# EAGLE library part TC2030-MCP-SWD (library tag-connect)
This RJ12 device is intended to be used at the programmer side with a TC2030-MCP cable for connecting to SWD targets. (Just because the MCP variant is cheaper and easier to acquire).
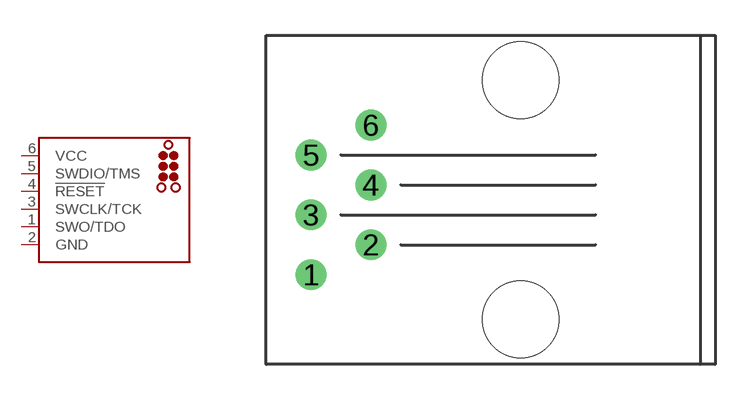
[diagram p2: symbol with the pads of RJ12; footprint RJ12]

Designator prefix CON

## TC2030-MCP-SWD  [RJ12]
1  SWO/TDO
2  GND  pas
3  SWCLK/TCK  out
4  !RESET  out
5  SWDIO/TMS
6  VCC  pas

## Footprint RJ12 (pad centres in mm)
RJ12, RJ14, RJ25 RJ12, RJ14 and RJ22 jacks side mounted http://www.tycoelectronics.com
drill 0.8: 1 -8.89,-3.175; 2 -6.35,-1.905; 3 -8.89,-0.635; 4 -6.35,0.635; 5 -8.89,1.905; 6 -6.35,3.175
hole 3.25 at 0,-5.08
hole 3.25 at 0,5.08